# Altium footprint library THT_Connectors.PcbLib: 1 footprints
Each footprint in its own frame and in the unit in brackets; x right, y up, seen from the top. Pads: shape width x height; smd on the part's side, far side on the other; paste and mask are expansions set on the pad; w line width, h text height; cw(c..) or ccw(c..) is an arc to the next point about the centre after c.
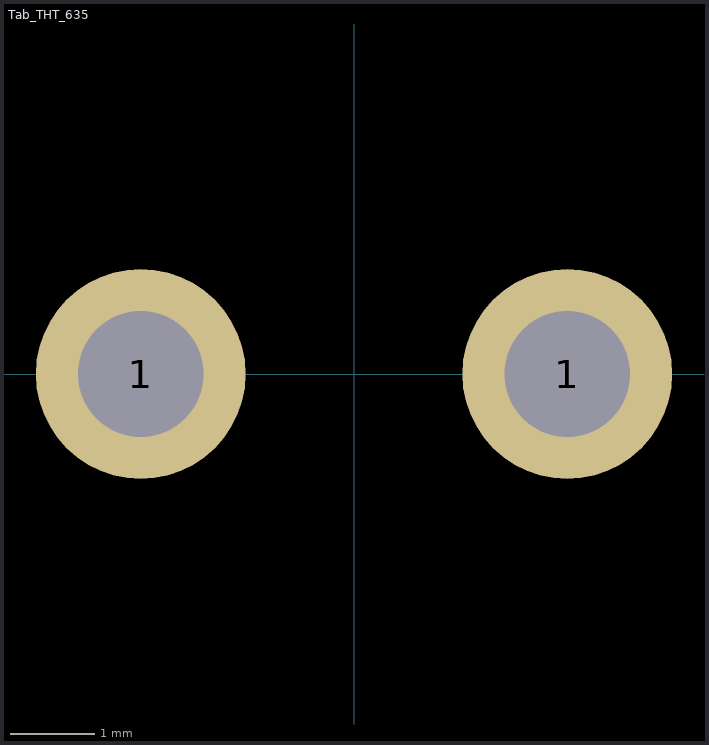
[diagram p0: the footprint, top view; thin cyan lines are the x and y axes]

## Tab_THT_635 [mm]
pads (2):
  round 2.5 hole 1.5: 1(-2.54,0) 1(2.54,0)
3D body "Flachsteckverbinder.stp": height 10.21, standoff -3.81, extent -3.96,-1.54 3.96,1.54